# EAGLE library part STM8L151F3P6 (library STM)
edit this description Auto generated by make-symbol-device-package-bsdl.ulp Rev. 44 Source:
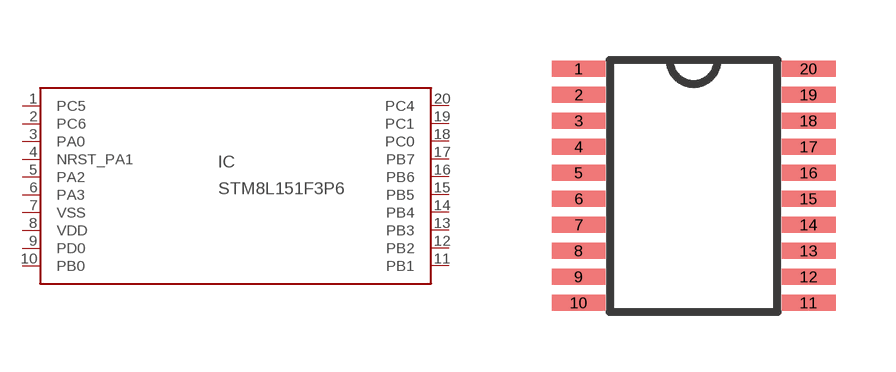
[diagram p0: symbol with the pads of STM8L151F3P; footprint STM8L151F3P]

Designator prefix IC

## STM8L151F3P6  [STM8L151F3P]
1  PC5
2  PC6
3  PA0
4  NRST_PA1
5  PA2
6  PA3
7  VSS
8  VDD
9  PD0
10  PB0
11  PB1
12  PB2
13  PB3
14  PB4
15  PB5
16  PB6
17  PB7
18  PC0
19  PC1
20  PC4

## Footprint STM8L151F3P (pad centres in mm)
STM8L151F3P Auto generated by make-symbol-device-package-bsdl.ulp Rev. 44
smd 1.35 x 0.4: 1 -2.875,2.925; 2 -2.875,2.275; 3 -2.875,1.625; 4 -2.875,0.975; 5 -2.875,0.325; 6 -2.875,-0.325; 7 -2.875,-0.975; 8 -2.875,-1.625; 9 -2.875,-2.275; 10 -2.875,-2.925; 11 2.875,-2.925; 12 2.875,-2.275; 13 2.875,-1.625; 14 2.875,-0.975; 15 2.875,-0.325; 16 2.875,0.325; 17 2.875,0.975; 18 2.875,1.625; 19 2.875,2.275; 20 2.875,2.925